# EAGLE library part 5569-06 (library con-molex-5569)
4.20mm Pitch Mini-Fit Jr.™ - 6 pin Source: http://www.molex.com/molex/products/family?key=minifit_jr&channel=PRODUCTS&chanName=family&pageTitle=Introduction
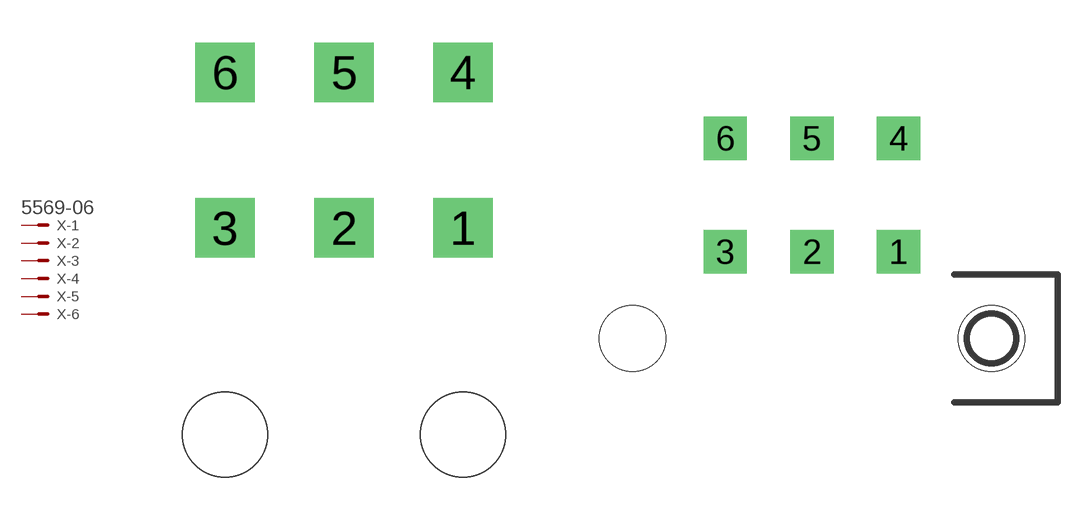
[diagram p9: symbol with the pads of 5569-06; footprints 5569-06, 5569-06A]

Designator prefix X; gates -1=MV -2=M -3=M -4=M -5=M -6=M

## 5569-06  [5569-06]
1  -1:>NAME$
2  -2:>NAME$
3  -3:>NAME$
4  -4:>NAME$
5  -5:>NAME$
6  -6:>NAME$

## 5569-06A  [5569-06A]
Pads as for 5569-06

## Footprint 5569-06 (pad centres in mm)
5569-06 - 6 pin 4.20mm Pitch Mini-Fit Jr.™ Header, Dual Row, Right Angle, with Snap-in Plastic Peg PCB Lock. Source: http://www.molex.com/pdm_docs/sd/039307025_sd.pdf
drill 1.4 square: 1 4.2,-2.75; 2 0,-2.75; 3 -4.2,-2.75; 4 4.2,2.75; 5 0,2.75; 6 -4.2,2.75
hole 3 at 4.2,-10.05
hole 3 at -4.2,-10.05

## Footprint 5569-06A (pad centres in mm)
5569-06A - 6 pin 4.20mm Pitch Mini-Fit Jr.™ Header, Dual Row, Right Angle, with PCB Mounting Flange. Source: http://www.molex.com/pdm_docs/sd/039291048_sd.pdf
drill 1.4 square: 1 4.2,-2.75; 2 0,-2.75; 3 -4.2,-2.75; 4 4.2,2.75; 5 0,2.75; 6 -4.2,2.75
hole 3.2 at 8.7,-6.95
hole 3.2 at -8.7,-6.95